# Altium footprint library Embedded.PcbLib: 17 footprints (part 2 of 2)
Each footprint in its own frame and in the unit in brackets; x right, y up, seen from the top. Pads: shape width x height; smd on the part's side, far side on the other; paste and mask are expansions set on the pad; w line width, h text height; cw(c..) or ccw(c..) is an arc to the next point about the centre after c.
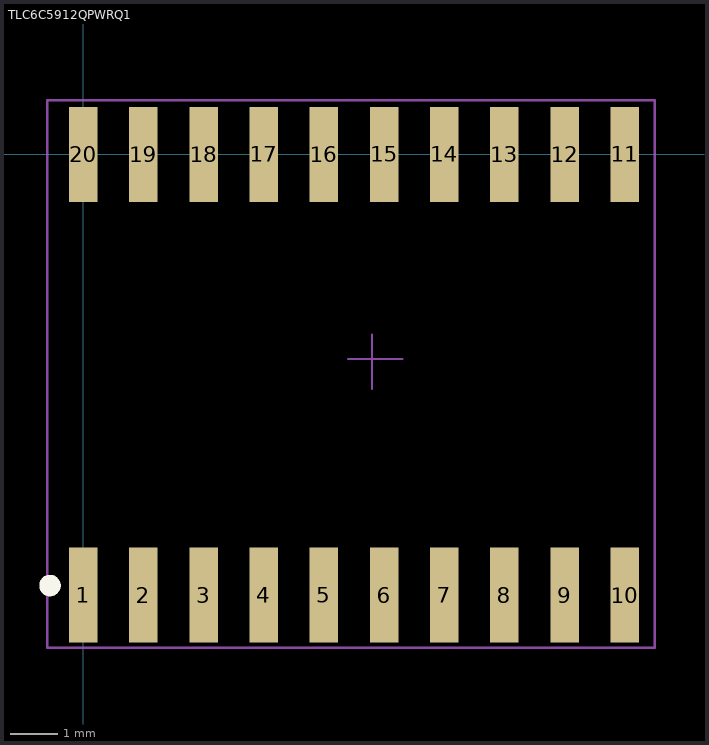
[diagram p1: the footprint, top view; thin cyan lines are the x and y axes]

## TLC6C5912QPWRQ1 [mm] "Shift Register LED Driver"
pads (20):
  rect 0.6x2 smd: 1(0,-9.3) 2(1.27,-9.3) 3(2.54,-9.3) 4(3.81,-9.3) 5(5.08,-9.3) 6(6.35,-9.3) 7(7.62,-9.3) 8(8.89,-9.3) 9(10.16,-9.3) 10(11.43,-9.3) 11(11.43,0) 12(10.16,0) 13(8.89,0) 14(7.62,0) 15(6.35,0) 16(5.08,0) 17(3.81,0) 18(2.54,0) 19(1.27,0) 20(0,0)
Top Overlay:
  circle w0.254: c-0.7,-9.1 r0.1
Mechanical 15:
  lines w0.05: 5.588,-4.318 6.731,-4.318 ; 6.096,-4.953 6.096,-3.81 ; -0.762,-10.414 -0.762,1.143 12.065,1.143 12.065,-10.414 -0.762,-10.414
3D body "DW0020A.stp": height 1.75, standoff 0, extent -0.7,-9.764 12.1,0.565